# Altium schematic symbol library OL_Y.Schlib: 1 symbol
Pins are listed as number, name and electrical type; pins without a type are passive.

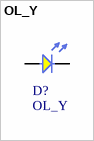
[diagram p0: symbol OL_Y]

## OL_Y
designator D?
LED_YELLOW
pins: 1 C, 2 A